# Altium integrated library smd cap.IntLib: 1 symbol
Pins are listed as number, name and electrical type; pins without a type are passive.

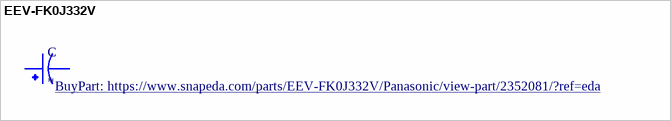
[diagram p0: symbol EEV-FK0J332V]

## EEV-FK0J332V
designator C
3300ÂµF 6.3V Aluminum Electrolytic Capacitors Radial, Can - SMD 5000 Hrs @ 105Â°C; MP: EEV-FK0J332V; MF: Panasonic; Mouser-Purchase-URL: https://snapeda.com/shop?store=Mouser&id=2352081; SnapEDA_Link: https://www.snapeda.com/parts/EEV-FK0J332V/Panasonic/view-part/2352081/?ref=snap; DigiKey-Purchase-URL: https://snapeda.com/shop?store=DigiKey&id=2352081; Availability: Warning; Price: None; Value: *; Package: Radial Panasonic; BuyPart: https://www.snapeda.com/parts/EEV-FK0J332V/Panasonic/view-part/2352081/?ref=eda
footprint CAP_EEV-FK0J332V
pins: 1, 2